# Altium schematic symbol library MDDG10R08D.SchLib: 1 symbol
Pins are listed as number, name and electrical type; pins without a type are passive.

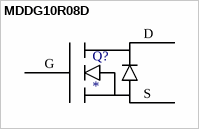
[diagram p0: symbol MDDG10R08D]

## MDDG10R08D
designator Q?
footprint DPAK228P970X238-3N (D-PAK, 3-Pads, Body 6.20x6.72mm (max), IPC Medium Density)
pins: D, G, S